# Altium integrated library MF-INDUCTORS.IntLib: 2 symbols
Pins are listed as number, name and electrical type; pins without a type are passive.

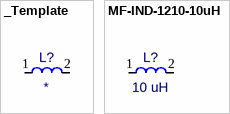
[diagram p0: symbols _Template to MF-IND-1210-10uH]

## _Template
designator L?
Type: *; Operating Temperature Range: *; Value: *; RoHS: *; MAX DC Current: *; Tolerance: *; Package: *; ComponentLink1Description: Datasheet; ComponentLink1URL: *; ComponentLink2Description: Supplier Link 1; ComponentLink2URL: *; Supplier 1: Macrofab; Supplier Part Number 1: *; Manufacturer 1: *; Manufacturer Part Number 1: *; Impedance: *
pins: 1, 2

## MF-IND-1210-10uH
designator L?  Impedance: 10 uH  (hidden comment: MF-IND-1210-10uH)
Fixed Inductor 10uH 133mOhms 540mA 1210; Manufacturer 1: Taiyo Yuden; Manufacturer Part Number 1: LBC3225T100KR; Value: 0.000009; Tolerance: 10%; Type: Fixed Inductor; Operating Temperature Range: - 40 C to + 105 C; RoHS: Compliant; MAX DC Current: 540 mA; Package: 1210; ComponentLink1Description: Datasheet; ComponentLink1URL: https://s3.amazonaws.com/devpublic1/datasheets/LBC3225T100KR_SS.pdf; ComponentLink2Description: Supplier Link 1; ComponentLink2URL: https://factory.macrofab.com/part/MF-IND-1210-10uH; Supplier 1: Macrofab; Supplier Part Number 1: MF-IND-1210-10uH
footprint L1210 (Chip Inductor, 2-Leads, Body 3.20x2.50mm, IPC Medium Density)
pins: 1, 2